# EAGLE library part 1.25T-5P (library Deegou_Connector)
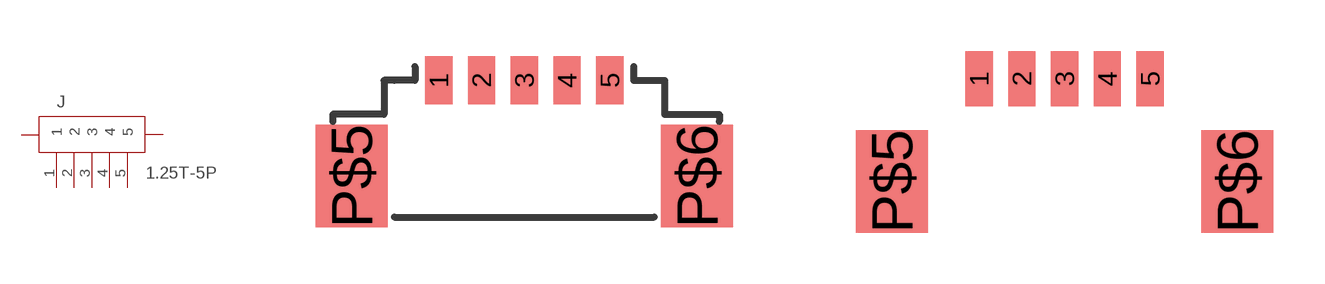
[diagram p6: symbol with the pads of 5P-SMD-1.25-90D; footprints 5P-SMD-1.25-90D, 5P-SMD-1.25]

Designator prefix J

## 1.25T-5P  [5P-SMD-1.25-90D]
1  1
2  2
3  3
4  4
5  5
P$5  P$1
P$6  P$2

## 1.25T-5P-1.25  [5P-SMD-1.25]
Pads as for 5P-SMD-1.25-90D

## Footprint 5P-SMD-1.25-90D (pad centres in mm)
smd 0.8 x 1.4: 1 -2.5,0; 2 -1.25,0; 3 0,0; 4 1.25,0; 5 2.5,0
smd 2.1 x 3: P$5 -5.05,-2.8; P$6 5.05,-2.8

## Footprint 5P-SMD-1.25 (pad centres in mm)
smd 0.8 x 1.6: 1 0,0; 2 1.25,0; 3 2.5,0; 4 3.75,0; 5 5,0
smd 2.1 x 3: P$5 -2.55,-3; P$6 7.55,-3